# Altium footprint library Transformer.PcbLib: 1 footprints
Each footprint in its own frame and in the unit in brackets; x right, y up, seen from the top. Pads: shape width x height; smd on the part's side, far side on the other; paste and mask are expansions set on the pad; w line width, h text height; cw(c..) or ccw(c..) is an arc to the next point about the centre after c.
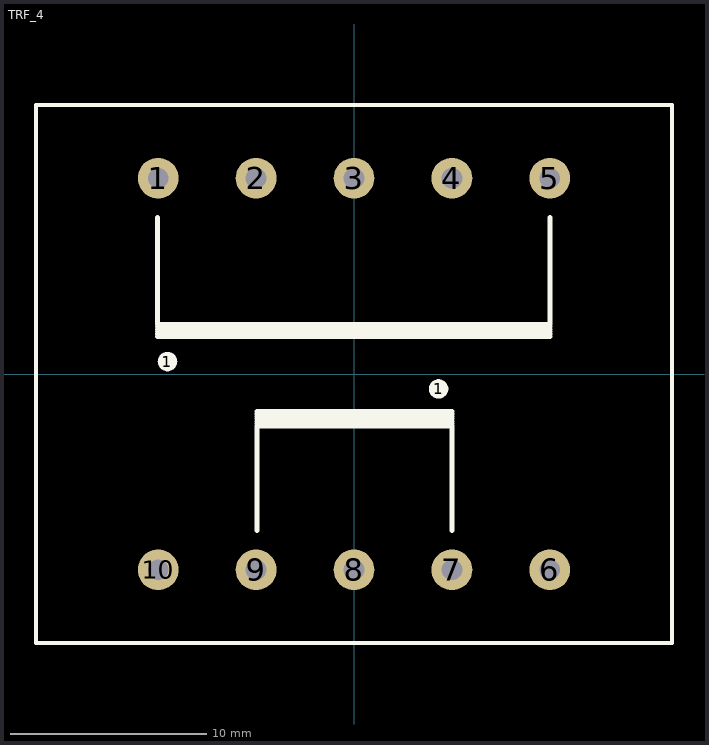
[diagram p0: the footprint, top view; thin cyan lines are the x and y axes]

## TRF_4 [mil] "Variable Transformer; 4 Leads"
pads (12):
  round 82 hole 42: 1(-393.7,393.7) 2(-196.85,393.7) 3(0,393.7) 4(196.85,393.7) 5(393.7,393.7) 6(393.7,-393.7) 7(196.85,-393.7) 8(0,-393.7) 9(-196.85,-393.7) 10(-393.7,-393.7)
  round 39.37 on Top Overlay: 1(-375,25) 1(170,-30)
Top Overlay:
  lines w8: -639.76,-541.34 639.76,-541.34 639.76,541.34 -639.76,541.34 -639.76,-541.34
  lines w10: -395,75 393.7,75 ; -395,80 393.7,80 ; -395,85 393.7,85 ; -395,90 393.7,90 ; -395,95 393.7,95 ; -395,314.96 -395,100 393.7,100 393.7,314.96 ; -395,393.7 -393.7,393.7 ; -196.85,-393.7 -195,-393.7 ; -195,-314.96 -195,-105 196.85,-105 196.85,-314.96 ; -195,-100 196.85,-100 ; -195,-95 196.85,-95 ; -195,-90 196.85,-90 ; -195,-85 196.85,-85 ; -195,-80 196.85,-80 ; -195,-75 196.85,-75